# EAGLE library part ATMEGA4809-AFR (library TPS_PROJECT)
20MHz 48KB TQFP48 Ind 125C Green T&R
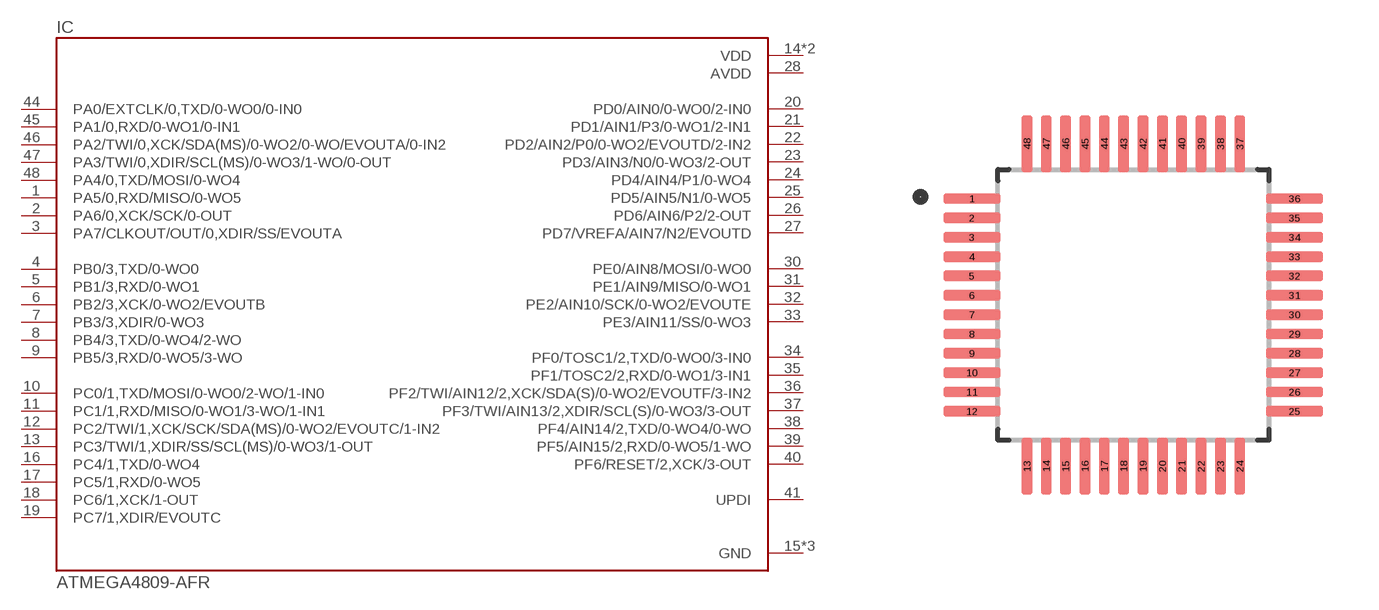
[diagram p3: symbol with the pads of QFP50P900X900X120-48N; footprint QFP50P900X900X120-48N]

Designator prefix IC

## ATMEGA4809-AFR (AVAILABILITY: Unavailable; DESCRIPTION: 20MHz 48KB TQFP48 Ind 125C Green T&R; MF: Microchip; MP: ATMEGA4809-AFR; PACKAGE: TQFP-48 Microchip; PRICE: None)  [QFP50P900X900X120-48N]
1  PA5/0,RXD/MISO/0-WO5
2  PA6/0,XCK/SCK/0-OUT
3  PA7/CLKOUT/OUT/0,XDIR/SS/EVOUTA
4  PB0/3,TXD/0-WO0
5  PB1/3,RXD/0-WO1
6  PB2/3,XCK/0-WO2/EVOUTB
7  PB3/3,XDIR/0-WO3
8  PB4/3,TXD/0-WO4/2-WO
9  PB5/3,RXD/0-WO5/3-WO
10  PC0/1,TXD/MOSI/0-WO0/2-WO/1-IN0
11  PC1/1,RXD/MISO/0-WO1/3-WO/1-IN1
12  PC2/TWI/1,XCK/SCK/SDA(MS)/0-WO2/EVOUTC/1-IN2
13  PC3/TWI/1,XDIR/SS/SCL(MS)/0-WO3/1-OUT
14  VDD  pwr
15  GND  pwr
16  PC4/1,TXD/0-WO4
17  PC5/1,RXD/0-WO5
18  PC6/1,XCK/1-OUT
19  PC7/1,XDIR/EVOUTC
20  PD0/AIN0/0-WO0/2-IN0
21  PD1/AIN1/P3/0-WO1/2-IN1
22  PD2/AIN2/P0/0-WO2/EVOUTD/2-IN2
23  PD3/AIN3/N0/0-WO3/2-OUT
24  PD4/AIN4/P1/0-WO4
25  PD5/AIN5/N1/0-WO5
26  PD6/AIN6/P2/2-OUT
27  PD7/VREFA/AIN7/N2/EVOUTD
28  AVDD  pwr
29  GND  pwr
30  PE0/AIN8/MOSI/0-WO0
31  PE1/AIN9/MISO/0-WO1
32  PE2/AIN10/SCK/0-WO2/EVOUTE
33  PE3/AIN11/SS/0-WO3
34  PF0/TOSC1/2,TXD/0-WO0/3-IN0
35  PF1/TOSC2/2,RXD/0-WO1/3-IN1
36  PF2/TWI/AIN12/2,XCK/SDA(S)/0-WO2/EVOUTF/3-IN2
37  PF3/TWI/AIN13/2,XDIR/SCL(S)/0-WO3/3-OUT
38  PF4/AIN14/2,TXD/0-WO4/0-WO
39  PF5/AIN15/2,RXD/0-WO5/1-WO
40  PF6/RESET/2,XCK/3-OUT
41  UPDI
42  VDD  pwr
43  GND  pwr
44  PA0/EXTCLK/0,TXD/0-WO0/0-IN0
45  PA1/0,RXD/0-WO1/0-IN1
46  PA2/TWI/0,XCK/SDA(MS)/0-WO2/0-WO/EVOUTA/0-IN2
47  PA3/TWI/0,XDIR/SCL(MS)/0-WO3/1-WO/0-OUT
48  PA4/0,TXD/MOSI/0-WO4

## Footprint QFP50P900X900X120-48N (pad centres in mm)
smd 1.47 x 0.28: 1 -4.17,2.75; 2 -4.17,2.25; 3 -4.17,1.75; 4 -4.17,1.25; 5 -4.17,0.75; 6 -4.17,0.25; 7 -4.17,-0.25; 8 -4.17,-0.75; 9 -4.17,-1.25; 10 -4.17,-1.75; 11 -4.17,-2.25; 12 -4.17,-2.75; 25 4.17,-2.75; 26 4.17,-2.25; 27 4.17,-1.75; 28 4.17,-1.25; 29 4.17,-0.75; 30 4.17,-0.25; 31 4.17,0.25; 32 4.17,0.75; 33 4.17,1.25; 34 4.17,1.75; 35 4.17,2.25; 36 4.17,2.75
smd 0.28 x 1.47: 13 -2.75,-4.17; 14 -2.25,-4.17; 15 -1.75,-4.17; 16 -1.25,-4.17; 17 -0.75,-4.17; 18 -0.25,-4.17; 19 0.25,-4.17; 20 0.75,-4.17; 21 1.25,-4.17; 22 1.75,-4.17; 23 2.25,-4.17; 24 2.75,-4.17; 37 2.75,4.17; 38 2.25,4.17; 39 1.75,4.17; 40 1.25,4.17; 41 0.75,4.17; 42 0.25,4.17; 43 -0.25,4.17; 44 -0.75,4.17; 45 -1.25,4.17; 46 -1.75,4.17; 47 -2.25,4.17; 48 -2.75,4.17